# Altium footprint library Connector WF Series Pad.PcbLib: 38 footprints (part 2 of 3)
Each footprint in its own frame and in the unit in brackets; x right, y up, seen from the top. Pads: shape width x height; smd on the part's side, far side on the other; paste and mask are expansions set on the pad; w line width, h text height; cw(c..) or ccw(c..) is an arc to the next point about the centre after c.
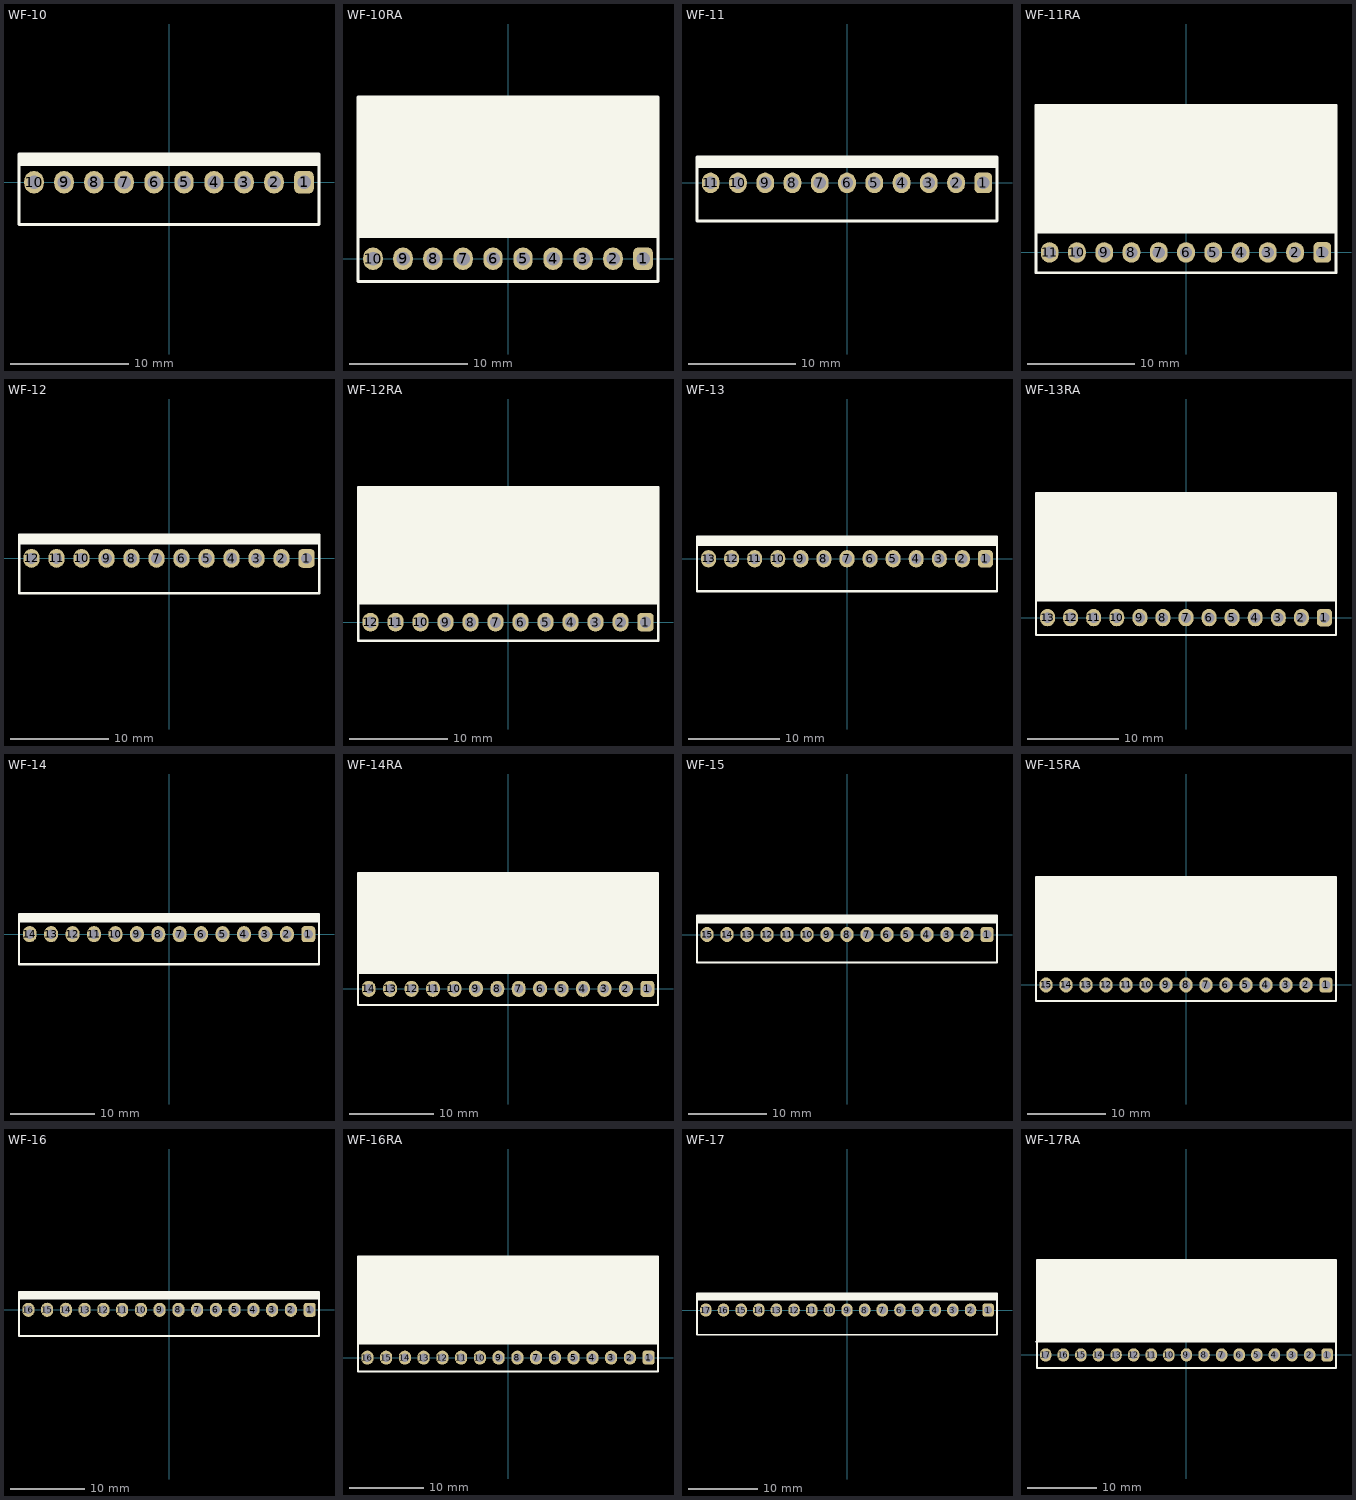
[diagram p1: the footprints below, top view; thin cyan lines are the x and y axes]

## WF-10 [mil] "PCB Vertical Connector 10-Pin"
pads (10):
  rrect50% 65x75 hole 45: 1(450,0)
  oval 65x75 hole 45: 2(350,0) 3(250,0) 4(150,0) 5(50,0) 6(-50,0) 7(-150,0) 8(-250,0) 9(-350,0) 10(-450,0)
Top Overlay:
  rectangle: -500,60 500,95
  lines w10: -500,60 500,60 ; -500,-140 500,-140 500,95 -500,95 -500,-140
3D body "DS1070-10 (WF-10 CONNFLY).step": height 449.82, standoff -128.92, extent -500,-140 500,92.28

## WF-10RA [mil] "PCB Rigth Angle Connector 10-Pin"
pads (10):
  rrect50% 65x75 hole 45: 1(450,0)
  oval 65x75 hole 45: 2(350,0) 3(250,0) 4(150,0) 5(50,0) 6(-50,0) 7(-150,0) 8(-250,0) 9(-350,0) 10(-450,0)
Top Overlay:
  rectangle: -500,75 500,540
  lines w10: -500,75 500,75 ; -500,-75 -500,540 500,540 500,-75 -500,-75
3D body "DS1070-10MR (WF-10RA CONNFLY).step": height 233.28, standoff -132.86, extent -500,-14.8 500,540.31

## WF-11 [mil] "PCB Vertical Connector 11-Pin"
pads (11):
  rrect50% 65x75 hole 45: 1(500,0)
  oval 65x75 hole 45: 2(400,0) 3(300,0) 4(200,0) 5(100,0) 6(0,0) 7(-100,0) 8(-200,0) 9(-300,0) 10(-400,0) 11(-500,0)
Top Overlay:
  rectangle: -550,60 550,95
  lines w10: -550,60 550,60 ; -550,-140 -550,95 550,95 550,-140 -550,-140
3D body "DS1070-11 (WF-11 CONNFLY).step": height 449.82, standoff -128.92, extent -550,-140 550,92.28

## WF-11RA [mil] "PCB Rigth Angle Connector 11-Pin"
pads (11):
  rrect50% 65x75 hole 45: 1(500,0)
  oval 65x75 hole 45: 2(400,0) 3(300,0) 4(200,0) 5(100,0) 6(0,0) 7(-100,0) 8(-200,0) 9(-300,0) 10(-400,0) 11(-500,0)
Top Overlay:
  rectangle: -550,75 550,540
  lines w10: -550,75 550,75 ; -550,-75 550,-75 550,540 -550,540 -550,-75
3D body "DS1070-11MR (WF-11RA CONNFLY).step": height 233.28, standoff -132.86, extent -550,-14.8 550,540.31

## WF-12 [mil] "PCB Vertical Connector 12-Pin"
pads (12):
  rrect50% 65x75 hole 45: 1(550,0)
  oval 65x75 hole 45: 2(450,0) 3(350,0) 4(250,0) 5(150,0) 6(50,0) 7(-50,0) 8(-150,0) 9(-250,0) 10(-350,0) 11(-450,0) 12(-550,0)
Top Overlay:
  rectangle: -600,60 600,95
  lines w10: -600,60 600,60 ; -600,-140 600,-140 600,95 -600,95 -600,-140
3D body "DS1070-12 (WF-12 CONNFLY).step": height 449.82, standoff -128.92, extent -600,-140 600,92.28

## WF-12RA [mil] "PCB Rigth Angle Connector 12-Pin"
pads (12):
  rrect50% 65x75 hole 45: 1(550,0)
  oval 65x75 hole 45: 2(450,0) 3(350,0) 4(250,0) 5(150,0) 6(50,0) 7(-50,0) 8(-150,0) 9(-250,0) 10(-350,0) 11(-450,0) 12(-550,0)
Top Overlay:
  rectangle: -600,75 600,540
  lines w10: -600,75 600,75 ; -600,-75 600,-75 600,540 -600,540 -600,-75
3D body "DS1070-12MR (WF-12RA CONNFLY).step": height 233.28, standoff -132.86, extent -600,-14.8 600,540.31

## WF-13 [mil] "PCB Vertical Connector 13-Pin"
pads (13):
  rrect50% 65x75 hole 45: 1(600,0)
  oval 65x75 hole 45: 2(500,0) 3(400,0) 4(300,0) 5(200,0) 6(100,0) 7(0,0) 8(-100,0) 9(-200,0) 10(-300,0) 11(-400,0) 12(-500,0) 13(-600,0)
Top Overlay:
  rectangle: -650,60 650,95
  lines w10: -650,60 650,60 ; -650,-140 650,-140 650,95 -650,95 -650,-140
3D body "DS1070-13 (WF-13 CONNFLY).step": height 449.82, standoff -128.92, extent -650,-140 650,92.28

## WF-13RA [mil] "PCB Rigth Angle Connector 13-Pin"
pads (13):
  rrect50% 65x75 hole 45: 1(600,0)
  oval 65x75 hole 45: 2(500,0) 3(400,0) 4(300,0) 5(200,0) 6(100,0) 7(0,0) 8(-100,0) 9(-200,0) 10(-300,0) 11(-400,0) 12(-500,0) 13(-600,0)
Top Overlay:
  rectangle: -650,75 650,540
  lines w10: -650,75 650,75 ; -650,-75 650,-75 650,540 -650,540 -650,-75
3D body "DS1070-13MR (WF-13RA CONNFLY).step": height 233.28, standoff -132.86, extent -650,-14.8 650,540.31

## WF-14 [mil] "PCB Vertical Connector 14-Pin"
pads (14):
  rrect50% 65x75 hole 45: 1(650,0)
  oval 65x75 hole 45: 2(550,0) 3(450,0) 4(350,0) 5(250,0) 6(150,0) 7(50,0) 8(-50,0) 9(-150,0) 10(-250,0) 11(-350,0) 12(-450,0) 13(-550,0) 14(-650,0)
Top Overlay:
  rectangle: -700,60 700,95
  lines w10: -700,60 700,60 ; -700,-140 -700,95 700,95 700,-140 -700,-140
3D body "DS1070-14 (WF-14 CONNFLY).step": height 449.82, standoff -128.92, extent -700,-140 700,92.28

## WF-14RA [mil] "PCB Rigth Angle Connector 14-Pin"
pads (14):
  rrect50% 65x75 hole 45: 1(650,0)
  oval 65x75 hole 45: 2(550,0) 3(450,0) 4(350,0) 5(250,0) 6(150,0) 7(50,0) 8(-50,0) 9(-150,0) 10(-250,0) 11(-350,0) 12(-450,0) 13(-550,0) 14(-650,0)
Top Overlay:
  rectangle: -700,75 700,540
  lines w10: -700,75 700,75 ; -700,-75 700,-75 700,540 -700,540 -700,-75
3D body "DS1070-14MR (WF-14RA CONNFLY).step": height 233.28, standoff -132.86, extent -700,-14.8 700,540.31

## WF-15 [mil] "PCB Vertical Connector 15-Pin"
pads (15):
  rrect50% 65x75 hole 45: 1(700,0)
  oval 65x75 hole 45: 2(600,0) 3(500,0) 4(400,0) 5(300,0) 6(200,0) 7(100,0) 8(0,0) 9(-100,0) 10(-200,0) 11(-300,0) 12(-400,0) 13(-500,0) 14(-600,0) 15(-700,0)
Top Overlay:
  rectangle: -750,60 750,95
  lines w10: -750,60 750,60 ; -750,-140 -750,95 750,95 750,-140 -750,-140
3D body "DS1070-15 (WF-15 CONNFLY).step": height 449.82, standoff -128.92, extent -750,-140 750,92.28

## WF-15RA [mil] "PCB Rigth Angle Connector 15-Pin"
pads (15):
  rrect50% 65x75 hole 45: 1(700,0)
  oval 65x75 hole 45: 2(600,0) 3(500,0) 4(400,0) 5(300,0) 6(200,0) 7(100,0) 8(0,0) 9(-100,0) 10(-200,0) 11(-300,0) 12(-400,0) 13(-500,0) 14(-600,0) 15(-700,0)
Top Overlay:
  rectangle: -750,80 750,540
  lines w10: -750,75 750,75 ; -750,-80 -750,540 750,540 750,-80 -750,-80
3D body "DS1070-15MR (WF-15RA CONNFLY).step": height 233.28, standoff -132.86, extent -750,-14.8 750,540.31

## WF-16 [mil] "PCB Vertical Connector 16-Pin"
pads (16):
  rrect50% 65x75 hole 45: 1(750,0)
  oval 65x75 hole 45: 2(650,0) 3(550,0) 4(450,0) 5(350,0) 6(250,0) 7(150,0) 8(50,0) 9(-50,0) 10(-150,0) 11(-250,0) 12(-350,0) 13(-450,0) 14(-550,0) 15(-650,0) 16(-750,0)
Top Overlay:
  rectangle: -800,60 800,95
  lines w10: -800,60 800,60 ; -800,-140 -800,95 800,95 800,-140 -800,-140
3D body "DS1070-16 (WF-16 CONNFLY).step": height 449.82, standoff -128.92, extent -800,-140 800,92.28

## WF-16RA [mil] "PCB Rigth Angle Connector 16-Pin"
pads (16):
  rrect50% 65x75 hole 45: 1(750,0)
  oval 65x75 hole 45: 2(650,0) 3(550,0) 4(450,0) 5(350,0) 6(250,0) 7(150,0) 8(50,0) 9(-50,0) 10(-150,0) 11(-250,0) 12(-350,0) 13(-450,0) 14(-550,0) 15(-650,0) 16(-750,0)
Top Overlay:
  rectangle: -800,75 800,540
  lines w10: -800,75 800,75 ; -800,-75 -800,540 800,540 800,-75 -800,-75
3D body "DS1070-16MR (WF-16RA CONNFLY).step": height 233.28, standoff -132.86, extent -800,-14.8 800,540.31

## WF-17 [mil] "PCB Vertical Connector 17-Pin"
pads (17):
  rrect50% 65x75 hole 45: 1(800,0)
  oval 65x75 hole 45: 2(700,0) 3(600,0) 4(500,0) 5(400,0) 6(300,0) 7(200,0) 8(100,0) 9(0,0) 10(-100,0) 11(-200,0) 12(-300,0) 13(-400,0) 14(-500,0) 15(-600,0) 16(-700,0) 17(-800,0)
Top Overlay:
  rectangle: -850,60 850,95
  lines w10: -850,60 850,60 ; -850,-140 -850,95 850,95 850,-140 -850,-140
3D body "DS1070-17 (WF-17 CONNFLY).step": height 449.82, standoff -128.92, extent -850,-140 850,92.28

## WF-17RA [mil] "PCB Rigth Angle Connector 17-Pin"
pads (17):
  rrect50% 65x75 hole 45: 1(800,0)
  oval 65x75 hole 45: 2(700,0) 3(600,0) 4(500,0) 5(400,0) 6(300,0) 7(200,0) 8(100,0) 9(0,0) 10(-100,0) 11(-200,0) 12(-300,0) 13(-400,0) 14(-500,0) 15(-600,0) 16(-700,0) 17(-800,0)
Top Overlay:
  rectangle: -850,75 850,540
  lines w10: -855,75 845,75 ; -850,-75 850,-75 850,540 -850,540 -850,-75
3D body "DS1070-17MR (WF-17RA CONNFLY).step": height 233.28, standoff -132.86, extent -850,-14.8 850,540.31